# Altium integrated library Components.IntLib: 30 symbols
Pins are listed as number, name and electrical type; pins without a type are passive.

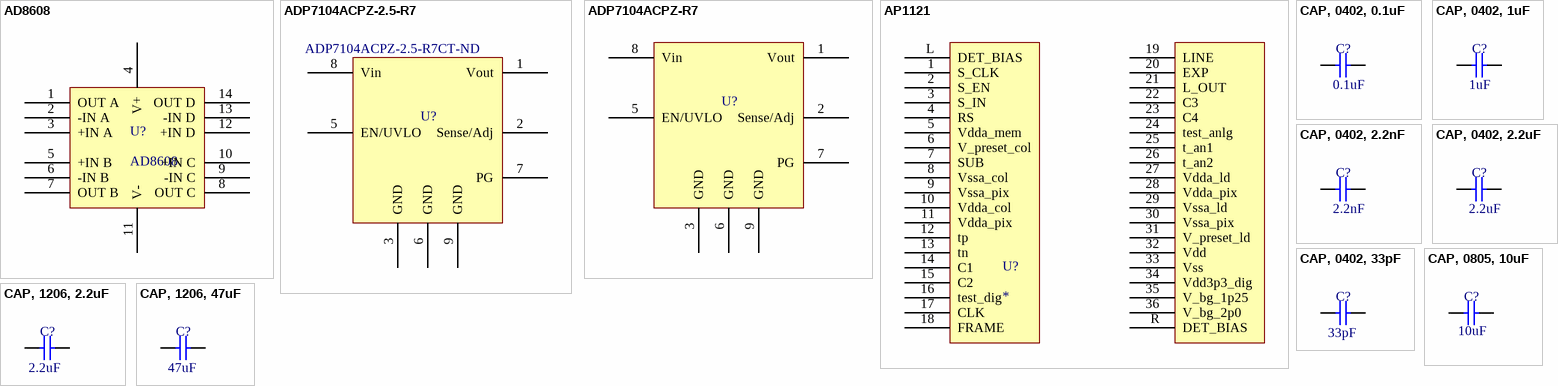
[diagram p0: symbols AD8608 to CAP, 1206, 47uF]

## AD8608
designator U?
Quad Op-Amp; Manufacturer: Analog Devices Inc; Manufacturer Part Number: AD8608ARZ-REEL; Amplifier Type: General Purpose; Number of Circuits: 4; Output Type: Rail-to-Rail; Slew Rate: 5 V/µs; Gain Bandwidth Product: 10MHz; Current - Input Bias: 0.2pA; Voltage - Input Offset: 80µV; Current - Supply: 1mA; Current - Output / Channel: 80mA; Voltage - Supply, Single/Dual (±): 2.7 V ~ 5.5 V; Description: IC OPAMP GP 10MHZ RRO 14SOIC; Packaging: Cut Tape (CT); -3db Bandwidth: -; Operating Temperature: -40°C ~ 125°C; Mounting Type: Surface Mount; Package / Case: 14-SOIC (0.154", 3.90mm Width); Supplier Device Package: 14-SOIC; ComponentLink1URL: http://www.analog.com/static/imported-files/data_sheets/AD8605_8606_8608.pdf; ComponentLink1Description: http://www.analog.com/static/imported-files/data_sheets/AD8605_8606_8608.pdf; Supplier 1: Digi-Key; Supplier Part Number 1: AD8608ARZ-REELCT-ND; RoHS: RoHS Compliant; Stock 1: 2419; Pricing 1: 1=4.22, 10=3.785, 25=3.4036, 100=3.0954, 250=2.80196, 500=2.50858, 1000=2.11248 (USD); Category: Integrated Circuits (ICs)
footprint TSOP65P640X120-14N (TSOP, 14-Leads, Body 5.1x4.5mm (max), Pitch 0.65mm, IPC Medium Density)
pins: 1 OUT A, 2 -IN A, 3 +IN A, 4 V+, 5 +IN B, 6 -IN B, 7 OUT B, 8 OUT C, 9 -IN C, 10 +IN C, 11 V-, 12 +IN D, 13 -IN D, 14 OUT D

## ADP7104ACPZ-2.5-R7
designator U?  Supplier Part Number 1: ADP7104ACPZ-2.5-R7CT-ND  (hidden comment: *)
2.5V Voltage Regulator; Supplier 1: Digi-Key
footprint QFN50P300X300X75-8N (QFN, 8-Leads, Body 3.1x3.1mm (max), Pitch 0.50mm, IPC Medium Density)
pins: 1 Vout, 2 Sense/Adj, 3 GND, 5 EN/UVLO, 6 GND, 7 PG, 8 Vin, 9 GND

## ADP7104ACPZ-R7
designator U?  (value not drawn)
Adjustable Voltage Regulator; Supplier 1: Digi-Key; Supplier Part Number 1: ADP7104ACPZ-R7CT-ND
footprint QFN50P300X300X75-8N (QFN, 8-Leads, Body 3.1x3.1mm (max), Pitch 0.50mm, IPC Medium Density)
pins: 1 Vout, 2 Sense/Adj, 3 GND, 5 EN/UVLO, 6 GND, 7 PG, 8 Vin, 9 GND

## AP1121
designator U?
footprint AP1121
pins: 1 S_CLK, 2 S_EN, 3 S_IN, 4 RS, 5 Vdda_mem, 6 V_preset_col, 7 SUB, 8 Vssa_col, 9 Vssa_pix, 10 Vdda_col, 11 Vdda_pix, 12 tp, 13 tn, 14 C1, 15 C2, 16 test_dig, 17 CLK, 18 FRAME, 19 LINE, 20 EXP, 21 L_OUT, 22 C3, 23 C4, 24 test_anlg, 25 t_an1, 26 t_an2, 27 Vdda_ld, 28 Vdda_pix, 29 Vssa_ld, 30 Vssa_pix, 31 V_preset_ld, 32 Vdd, 33 Vss, 34 Vdd3p3_dig, 35 V_bg_1p25, 36 V_bg_2p0, L DET_BIAS, R DET_BIAS

## CAP, 0402, 0.1uF
designator C?  value 0.1uF  (hidden comment: *)
Supplier 1: Digi-Key; Supplier Part Number 1: 587-1456-2-ND
footprint CAPC01005(0402)22_N (Chip Capacitor, Body 0.4x0.2mm, Height 0.22mm, IPC Medium Density)
pins: 1, 2

## CAP, 0402, 1uF
designator C?  value 1uF  (hidden comment: *)
Supplier 1: Digi-Key; Supplier Part Number 1: 587-3245-1-ND
footprint CAPC01005(0402)22_N (Chip Capacitor, Body 0.4x0.2mm, Height 0.22mm, IPC Medium Density)
pins: 1, 2

## CAP, 0402, 2.2nF
designator C?  value 2.2nF  (hidden comment: *)
Manufacturer: Taiyo Yuden; Manufacturer Part Number: UMK105B7222KV-F; Capacitance: 2200pF; Voltage - Rated: 50V; Tolerance: ±10%; Temperature Coefficient: X7R; Description: CAP CER 2200PF 50V 10% X7R 0402; Packaging: Cut Tape (CT); Mounting Type: Surface Mount, MLCC; Operating Temperature: -55°C ~ 125°C; Applications: General Purpose; Ratings: -; Package / Case: 0402 (1005 Metric); Size / Dimension: 0.039" L x 0.020" W (1.00mm x 0.50mm); Height - Seated (Max): -; Thickness (Max): 0.022" (0.55mm); Lead Spacing: -; Features: -; Lead Style: -; ComponentLink1URL: http://www.yuden.co.jp/or/product/category/capacitor/UMK105B7222KV-F.pdf; ComponentLink1Description: http://www.yuden.co.jp/or/product/category/capacitor/UMK105B7222KV-F.pdf; Supplier 1: Digi-Key; Supplier Part Number 1: 587-1221-1-ND; RoHS: RoHS Compliant; Category: Capacitors; Stock 1: 180048; Pricing 1: 1=0.1, 10=0.014, 50=0.0078, 100=0.0066, 250=0.0054, 500=0.00462, 1000=0.0036, 5000=0.003 (USD)
footprint CAPC01005(0402)22_N (Chip Capacitor, Body 0.4x0.2mm, Height 0.22mm, IPC Medium Density)
pins: 1, 2

## CAP, 0402, 2.2uF
designator C?  value 2.2uF  (hidden comment: *)
Manufacturer: Taiyo Yuden; Manufacturer Part Number: EMK105ABJ225MV-F; Capacitance: 2.2µF; Voltage - Rated: 16V; Tolerance: ±20%; Temperature Coefficient: X5R; Description: CAP CER 2.2UF 16V 20% X5R 0402; Supplier 1: Digi-Key; Supplier Part Number 1: 587-3245-1-ND; Packaging: Cut Tape (CT); Mounting Type: Surface Mount, MLCC; Operating Temperature: -55°C ~ 85°C; Applications: General Purpose; Ratings: -; Package / Case: 0402 (1005 Metric); Size / Dimension: 0.039" L x 0.020" W (1.00mm x 0.50mm); Height - Seated (Max): -; Thickness (Max): 0.022" (0.55mm); Lead Spacing: -; Features: -; Lead Style: -; ComponentLink1URL: http://www.yuden.co.jp/productdata/catalog/en/mlcc101_e.pdf; ComponentLink1Description: http://www.yuden.co.jp/productdata/catalog/en/mlcc101_e.pdf; Supplier 2: Digi-Key; Supplier Part Number 2: 587-3302-1-ND; RoHS: RoHS Compliant; Category: Capacitors; Stock 2: 46990; Pricing 2: 1=0.49, 10=0.371, 50=0.2162, 100=0.1729, 250=0.12352, 500=0.08398, 1000=0.06793, 5000=0.05311 (USD)
footprint CAPC01005(0402)22_N (Chip Capacitor, Body 0.4x0.2mm, Height 0.22mm, IPC Medium Density)
pins: 1, 2

## CAP, 0402, 33pF
designator C?  value 33pF
Supplier 1: Digi-Key; Supplier Part Number 1: 587-1205-1-ND
footprint CAPC01005(0402)22_N (Chip Capacitor, Body 0.4x0.2mm, Height 0.22mm, IPC Medium Density)
pins: 1, 2

## CAP, 0805, 10uF
designator C?  value 10uF  (hidden comment: *)
Supplier 1: Digi-Key; Supplier Part Number 1: 587-2985-1-ND
footprint CAPC0805(2012)130_N (Chip Capacitor, Body 2.0x1.2mm, Height 1.3mm, IPC Medium Density)
pins: 1, 2

## CAP, 1206, 2.2uF
designator C?, comment value 2.2uF  (hidden comment: 587-1329-2-ND)
Supplier 1: Digi-Key; Supplier Part Number 1: 587-1329-1-ND
footprint CAPC1206(3216)170_N (Chip Capacitor, Body 3.2x1.6mm, Height 1.7mm, IPC Medium Density)
pins: 1, 2

## CAP, 1206, 47uF
designator C?  value 47uF
Supplier 1: Digi-Key; Supplier Part Number 1: 445-8047-1-ND
footprint CAPC1206(3216)170_N (Chip Capacitor, Body 3.2x1.6mm, Height 1.7mm, IPC Medium Density)
pins: 1, 2

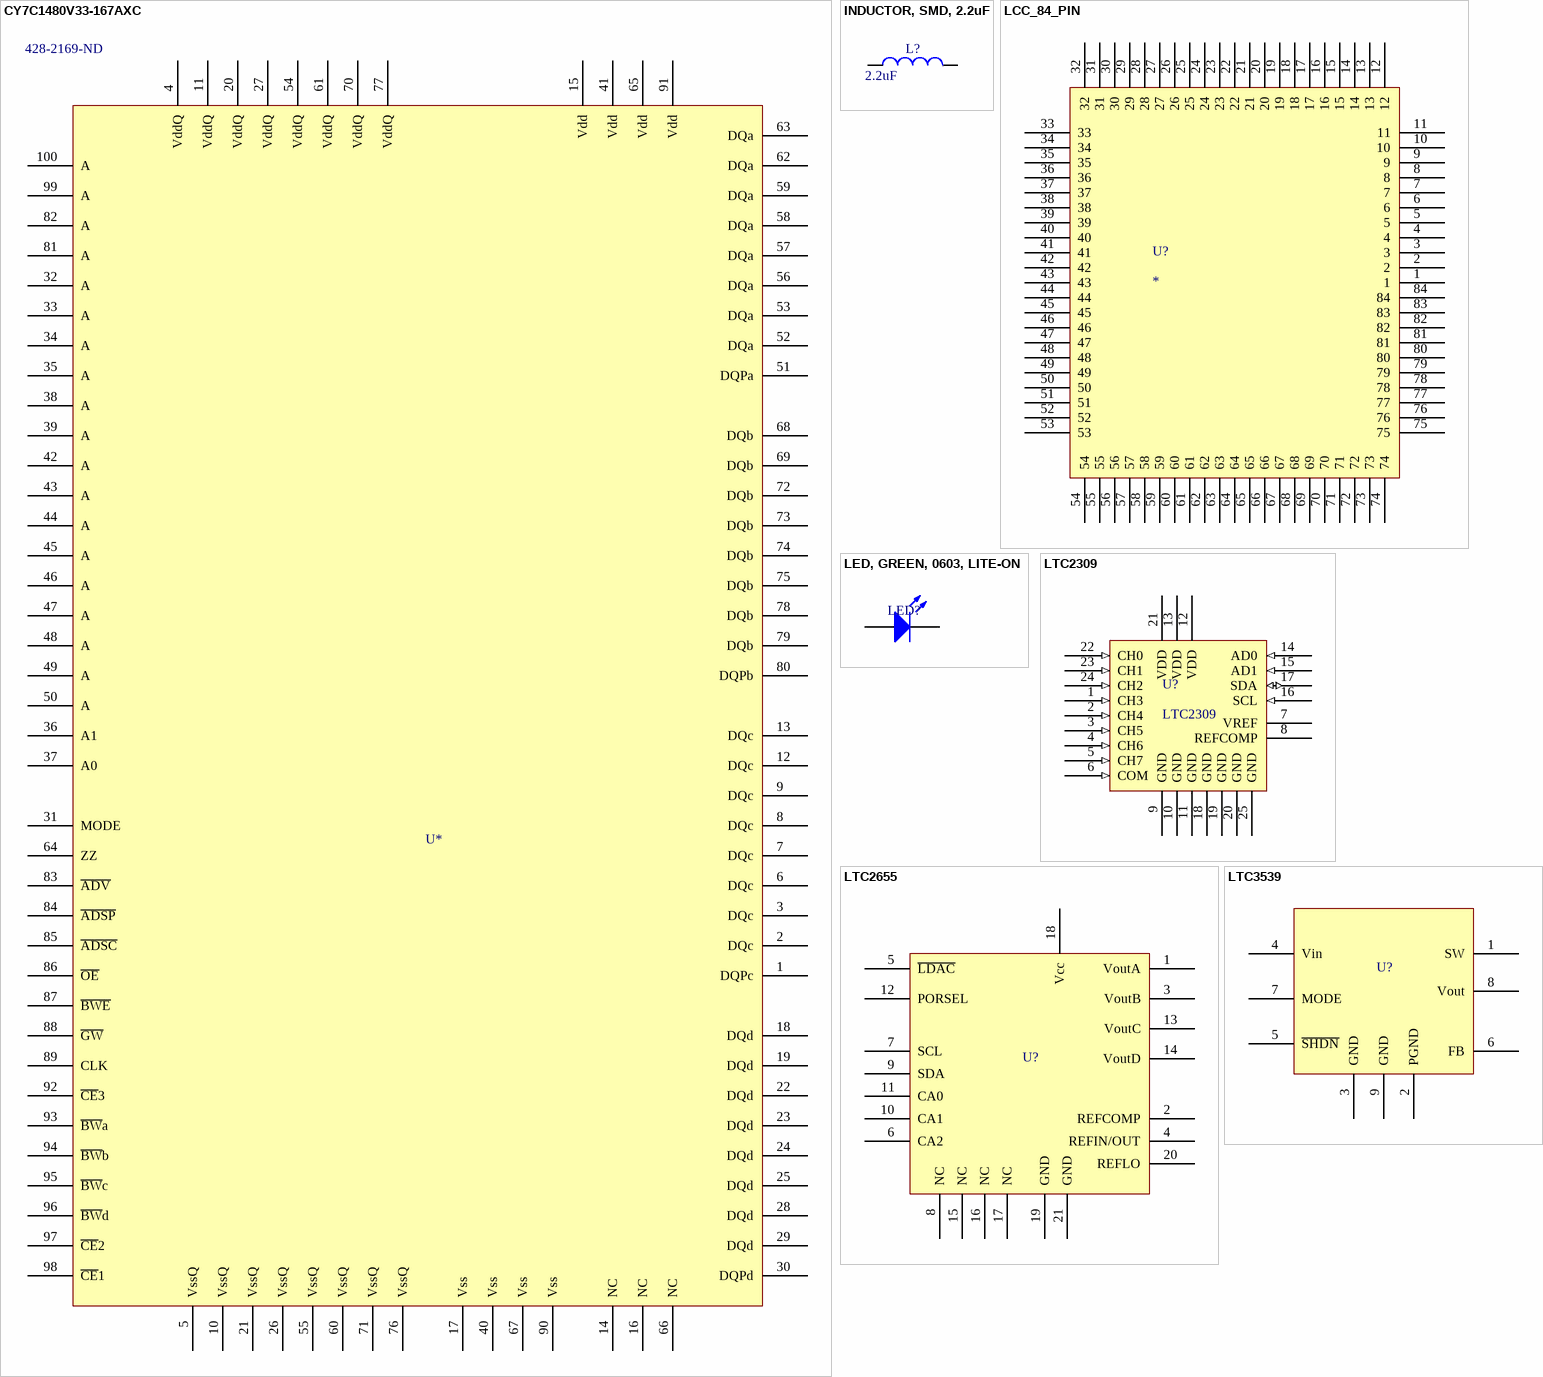
[diagram p1: symbols CY7C1480V33-167AXC to LTC3539]

## CY7C1480V33-167AXC
designator U*  Supplier Part Number 1: 428-2169-ND
Supplier 1: Digi-Key
footprint TQFP65P1600X2200X140-100N (TQFP, 100-Leads, Body 22.2x16.2mm (max), Pitch 0.65mm, IPC Medium Density)
pins: 1 DQPc, 2 DQc, 3 DQc, 4 VddQ, 5 VssQ, 6 DQc, 7 DQc, 8 DQc, 9 DQc, 10 VssQ, 11 VddQ, 12 DQc, 13 DQc, 14 NC, 15 Vdd, 16 NC, 17 Vss, 18 DQd, 19 DQd, 20 VddQ, 21 VssQ, 22 DQd, 23 DQd, 24 DQd, 25 DQd, 26 VssQ, 27 VddQ, 28 DQd, 29 DQd, 30 DQPd, 31 MODE, 32 A, 33 A, 34 A, 35 A, 36 A1, 37 A0, 38 A, 39 A, 40 Vss, 41 Vdd, 42 A, 43 A, 44 A, 45 A, 46 A, 47 A, 48 A, 49 A, 50 A, 51 DQPa, 52 DQa, 53 DQa, 54 VddQ, 55 VssQ, 56 DQa, 57 DQa, 58 DQa, 59 DQa, 60 VssQ, 61 VddQ, 62 DQa, 63 DQa, 64 ZZ, 65 Vdd, 66 NC, 67 Vss, 68 DQb, 69 DQb, 70 VddQ, 71 VssQ, 72 DQb, 73 DQb, 74 DQb, 75 DQb, 76 VssQ, 77 VddQ, 78 DQb, 79 DQb, 80 DQPb, 81 A, 82 A, 83 ~{ADV}, 84 ~{ADSP}, 85 ~{ADSC}, 86 ~{OE}, 87 ~{BWE}, 88 ~{GW}, 89 CLK, 90 Vss, 91 Vdd, 92 ~{CE}3, 93 ~{BW}a, 94 ~{BW}b, 95 ~{BW}c, 96 ~{BW}d, 97 ~{CE}2, 98 ~{CE}1, 99 A, 100 A

## INDUCTOR, SMD, 2.2uF
designator L?  value 2.2uF
Supplier 1: Digi-Key; Supplier Part Number 1: 445-4242-1-ND
footprint INDUCTOR, SMD, TDK (TDK VLF SERIES, VLF5014S)
pins: 1, 2

## LCC_84_PIN
designator U?
footprint LCC_84_PIN
pins: 1, 2, 3, 4, 5, 6, 7, 8, 9, 10, 11, 12, 13, 14, 15, 16, 17, 18, 19, 20, 21, 22, 23, 24, 25, 26, 27, 28, 29, 30, 31, 32, 33, 34, 35, 36, 37, 38, 39, 40, 41, 42, 43, 44, 45, 46, 47, 48, 49, 50, 51, 52, 53, 54, 55, 56, 57, 58, 59, 60, 61, 62, 63, 64, 65, 66, 67, 68, 69, 70, 71, 72, 73, 74, 75, 76, 77, 78, 79, 80, 81, 82, 83, 84

## LED, GREEN, 0603, LITE-ON
designator LED?  (value not drawn)
Supplier 1: Digi-Key; Supplier Part Number 1: 160-1446-1-ND
footprint 0603, LED (Chip LED, 2-Leads, Body 1.6x0.8mm, IPC Medium Density)
pins: 1 C, 2 A

## LTC2309
designator U?
8-Channel, 12-Bit SAR ADC with I2C Interface; Manufacturer: Linear Technology; Manufacturer Part Number: LTC2309CUF#PBF; Number of Bits: 12; Sampling Rate (Per Second): 14k; Data Interface: I²C, Serial; Number of Converters: 1; Voltage Supply Source: Single Supply; Number of Inputs and Type: 8 Single-Ended, Unipolar; 8 Single-Ended, Bipolar; 4 Differential, Unipolar; 4 Differential, Bipolar; Description: IC ADC 12BIT SAR 24-QFN; Packaging: Tube; Operating Temperature: 0°C ~ 70°C; Mounting Type: Surface Mount; Package / Case: 24-WFQFN Exposed Pad; Supplier Device Package: 24-QFN Exposed Pad (4x4); ComponentLink1URL: http://www.linear.com/docs/25786; ComponentLink1Description: http://www.linear.com/docs/25786; Supplier 1: Digi-Key; Supplier Part Number 1: LTC2309CUF#PBF-ND; RoHS: RoHS Compliant; Category: Integrated Circuits (ICs); Stock 1: 532; Pricing 1: 1=6.31, 25=5.27, 100=4.34 (USD)
footprint QFN50P400X400X80-24N (QFN, 24-Leads, Body 4.1x4.1mm (max), Pitch 0.50mm, IPC Medium Density)
pins: 1 CH3 (in), 2 CH4 (in), 3 CH5 (in), 4 CH6 (in), 5 CH7 (in), 6 COM (in), 7 VREF, 8 REFCOMP, 9 GND (power), 10 GND (power), 11 GND (power), 12 VDD (power), 13 VDD (power), 14 AD0 (in), 15 AD1 (in), 16 SCL (in), 17 SDA (io), 18 GND (power), 19 GND (power), 20 GND (power), 21 VDD (power), 22 CH0 (in), 23 CH1 (in), 24 CH2 (in), 25 GND (power)

## LTC2655
designator U?  (value not drawn)
Quad I2C 16-/12-Bit Rail-to-Rail DACs with 10ppm/°C Max Reference; Supplier 1: Digi-Key; Supplier Part Number 1: LTC2655BIUF-L16#PBF-ND
footprint QFN50P400X400X70-20N (QFN, 20-Leads, Body 4.1x4.1mm (max), Pitch 0.50mm, IPC Medium Density)
pins: 1 VoutA, 2 REFCOMP, 3 VoutB, 4 REFIN/OUT, 5 ~{LDAC}, 6 CA2, 7 SCL, 8 NC, 9 SDA, 10 CA1, 11 CA0, 12 PORSEL, 13 VoutC, 14 VoutD, 15 NC, 16 NC, 17 NC, 18 Vcc, 19 GND, 20 REFLO, 21 GND

## LTC3539
designator U?  (value not drawn)
2A, 1MHz/2MHz Synchronous Step-Up DC/DC Converters; Supplier 1: Digi-Key; Supplier Part Number 1: LTC3539EDCB#TRMPBFTR-ND
footprint QFN45P300X200X80-8N (QFN, 8-Leads, Body 2.1x3.1mm (max), Pitch 0.45mm, IPC Medium Density)
pins: 1 SW, 2 PGND, 3 GND, 4 Vin, 5 ~{SHDN}, 6 FB, 7 MODE, 8 Vout, 9 GND

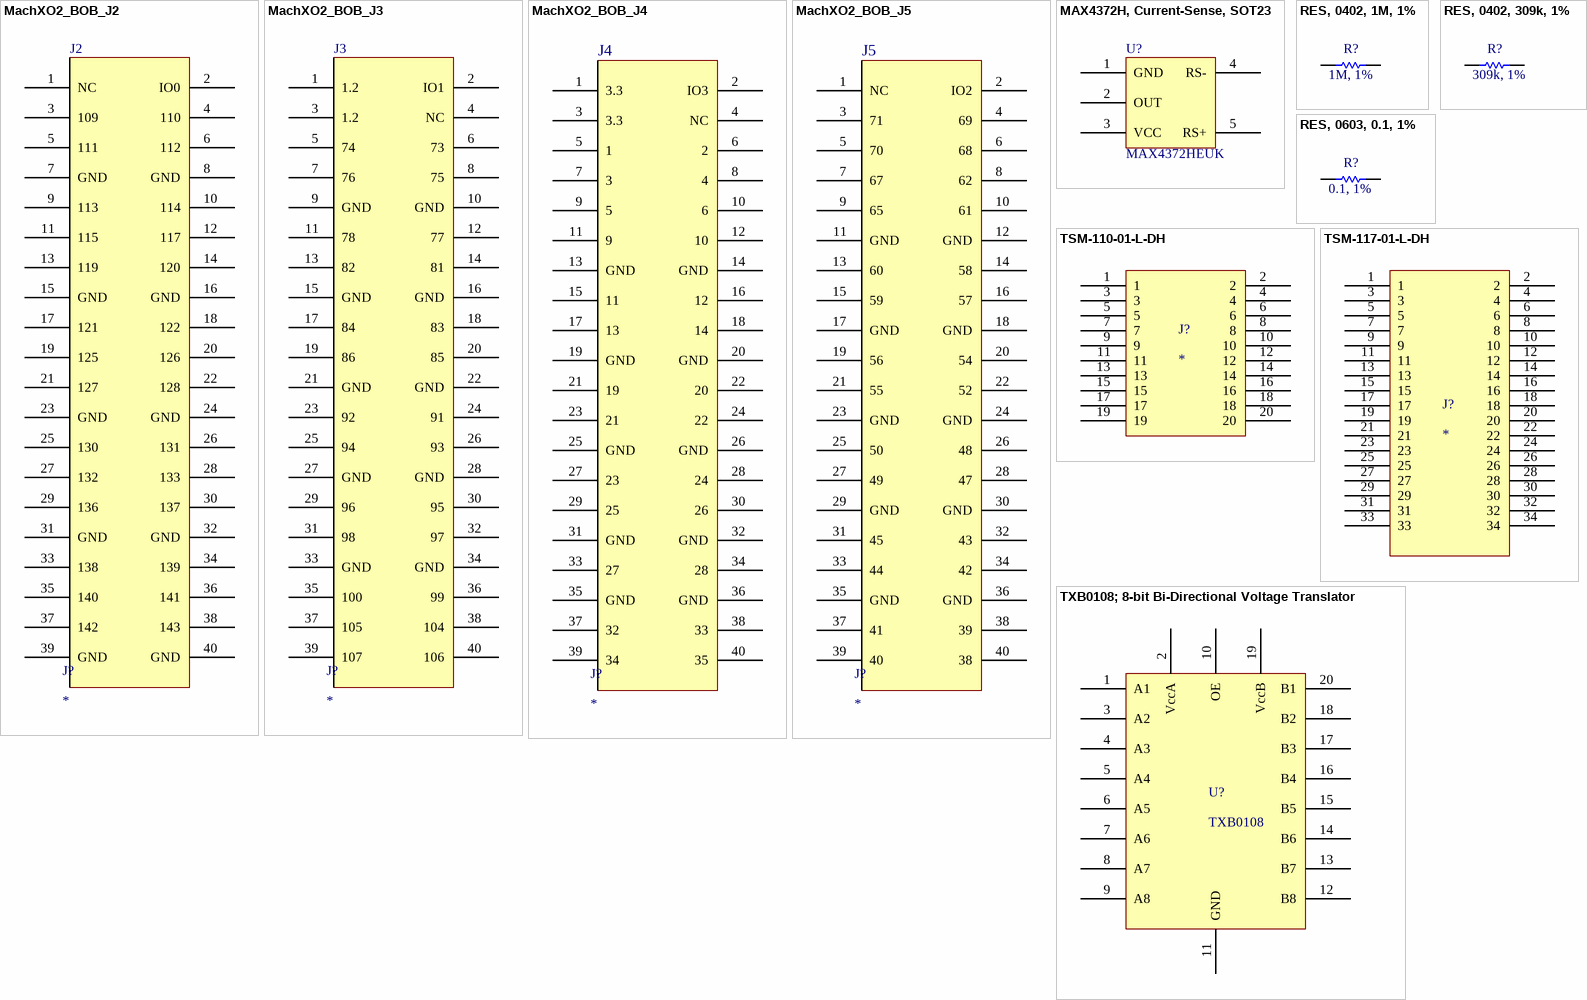
[diagram p2: symbols MachXO2_BOB_J2 to TXB0108; 8-bit Bi-Directional Voltage Translator]

## MachXO2_BOB_J2
designator J?
Manufacturer: 3M; Manufacturer Part Number: 966240-2000-AR-PR; Connector Type: Receptacle, Pass Through; Number of Positions: 40; Number of Positions Loaded: All; Pitch: 0.100" (2.54mm); Description: CONN SOCKET LO-PRO 40PS GOLD SMD; Packaging: Cut Tape (CT); Contact Type: Female Socket; Number of Rows: 2; Row Spacing: 0.100" (2.54mm); Mounting Type: Surface Mount; Termination: Solder; Fastening Type: -; Features: -; Contact Finish: Gold; Contact Finish Thickness: Flash; Color: Black; ComponentLink1URL: http://multimedia.3m.com/mws/mediawebserver?66666UuZjcFSLXTtNxTElXftEVuQEcuZgVs6EVs6E666666--; ComponentLink1Description: http://multimedia.3m.com/mws/mediawebserver?66666UuZjcFSLXTtNxTElXftEVuQEcuZgVs6EVs6E666666--; Supplier 1: Digi-Key; Supplier Part Number 1: 3M9579CT-ND; RoHS: RoHS Compliant; Category: Connectors, Interconnects; Stock 1: 767; Pricing 1: 1=6.97, 10=6.679, 25=6.0984, 50=5.808, 100=5.5176, 250=4.9368 (USD); Supplier 2: Digi-Key; Supplier Part Number 2: TSM-120-01-L-DV-P-ND
footprint RECEPTACLE_25.4MM_20x2_P1URC_SMT - duplicate (3M 966 Series 20x2 through board SMIT receptacle)
footprint HEADER_25.4MM_20x2_SMT_TOP (Samtec TSM 0.1" 2x20 Header)
pins: 1 NC, 2 IO0, 3 109, 4 110, 5 111, 6 112, 7 GND, 8 GND, 9 113, 10 114, 11 115, 12 117, 13 119, 14 120, 15 GND, 16 GND, 17 121, 18 122, 19 125, 20 126, 21 127, 22 128, 23 GND, 24 GND, 25 130, 26 131, 27 132, 28 133, 29 136, 30 137, 31 GND, 32 GND, 33 138, 34 139, 35 140, 36 141, 37 142, 38 143, 39 GND, 40 GND
text: J2

## MachXO2_BOB_J3
designator J?
Manufacturer: 3M; Manufacturer Part Number: 966240-2000-AR-PR; Connector Type: Receptacle, Pass Through; Number of Positions: 40; Number of Positions Loaded: All; Pitch: 0.100" (2.54mm); Description: CONN SOCKET LO-PRO 40PS GOLD SMD; Packaging: Cut Tape (CT); Contact Type: Female Socket; Number of Rows: 2; Row Spacing: 0.100" (2.54mm); Mounting Type: Surface Mount; Termination: Solder; Fastening Type: -; Features: -; Contact Finish: Gold; Contact Finish Thickness: Flash; Color: Black; ComponentLink1URL: http://multimedia.3m.com/mws/mediawebserver?66666UuZjcFSLXTtNxTElXftEVuQEcuZgVs6EVs6E666666--; ComponentLink1Description: http://multimedia.3m.com/mws/mediawebserver?66666UuZjcFSLXTtNxTElXftEVuQEcuZgVs6EVs6E666666--; Supplier 1: Digi-Key; Supplier Part Number 1: 3M9579CT-ND; RoHS: RoHS Compliant; Category: Connectors, Interconnects; Stock 1: 767; Pricing 1: 1=6.97, 10=6.679, 25=6.0984, 50=5.808, 100=5.5176, 250=4.9368 (USD)
footprint RECEPTACLE_25.4MM_20x2_P1URC_SMT - duplicate (3M 966 Series 20x2 through board SMIT receptacle)
footprint HEADER_25.4MM_20x2_SMT_TOP (Samtec TSM 0.1" 2x20 Header)
pins: 1 1.2, 2 IO1, 3 1.2, 4 NC, 5 74, 6 73, 7 76, 8 75, 9 GND, 10 GND, 11 78, 12 77, 13 82, 14 81, 15 GND, 16 GND, 17 84, 18 83, 19 86, 20 85, 21 GND, 22 GND, 23 92, 24 91, 25 94, 26 93, 27 GND, 28 GND, 29 96, 30 95, 31 98, 32 97, 33 GND, 34 GND, 35 100, 36 99, 37 105, 38 104, 39 107, 40 106
text: J3

## MachXO2_BOB_J4
designator J?
Manufacturer: 3M; Manufacturer Part Number: 966240-2000-AR-PR; Connector Type: Receptacle, Pass Through; Number of Positions: 40; Number of Positions Loaded: All; Pitch: 0.100" (2.54mm); Description: CONN SOCKET LO-PRO 40PS GOLD SMD; Packaging: Cut Tape (CT); Contact Type: Female Socket; Number of Rows: 2; Row Spacing: 0.100" (2.54mm); Mounting Type: Surface Mount; Termination: Solder; Fastening Type: -; Features: -; Contact Finish: Gold; Contact Finish Thickness: Flash; Color: Black; ComponentLink1URL: http://multimedia.3m.com/mws/mediawebserver?66666UuZjcFSLXTtNxTElXftEVuQEcuZgVs6EVs6E666666--; ComponentLink1Description: http://multimedia.3m.com/mws/mediawebserver?66666UuZjcFSLXTtNxTElXftEVuQEcuZgVs6EVs6E666666--; Supplier 1: Digi-Key; Supplier Part Number 1: 3M9579CT-ND; RoHS: RoHS Compliant; Category: Connectors, Interconnects; Stock 1: 767; Pricing 1: 1=6.97, 10=6.679, 25=6.0984, 50=5.808, 100=5.5176, 250=4.9368 (USD)
footprint RECEPTACLE_25.4MM_20x2_P1URC_SMT - duplicate (3M 966 Series 20x2 through board SMIT receptacle)
footprint HEADER_25.4MM_20x2_SMT_TOP (Samtec TSM 0.1" 2x20 Header)
pins: 1 3.3, 2 IO3, 3 3.3, 4 NC, 5 1, 6 2, 7 3, 8 4, 9 5, 10 6, 11 9, 12 10, 13 GND, 14 GND, 15 11, 16 12, 17 13, 18 14, 19 GND, 20 GND, 21 19, 22 20, 23 21, 24 22, 25 GND, 26 GND, 27 23, 28 24, 29 25, 30 26, 31 GND, 32 GND, 33 27, 34 28, 35 GND, 36 GND, 37 32, 38 33, 39 34, 40 35
text: J4

## MachXO2_BOB_J5
designator J?
Manufacturer: 3M; Manufacturer Part Number: 966240-2000-AR-PR; Connector Type: Receptacle, Pass Through; Number of Positions: 40; Number of Positions Loaded: All; Pitch: 0.100" (2.54mm); Description: CONN SOCKET LO-PRO 40PS GOLD SMD; Packaging: Cut Tape (CT); Contact Type: Female Socket; Number of Rows: 2; Row Spacing: 0.100" (2.54mm); Mounting Type: Surface Mount; Termination: Solder; Fastening Type: -; Features: -; Contact Finish: Gold; Contact Finish Thickness: Flash; Color: Black; ComponentLink1URL: http://multimedia.3m.com/mws/mediawebserver?66666UuZjcFSLXTtNxTElXftEVuQEcuZgVs6EVs6E666666--; ComponentLink1Description: http://multimedia.3m.com/mws/mediawebserver?66666UuZjcFSLXTtNxTElXftEVuQEcuZgVs6EVs6E666666--; Supplier 1: Digi-Key; Supplier Part Number 1: 3M9579CT-ND; RoHS: RoHS Compliant; Category: Connectors, Interconnects; Stock 1: 767; Pricing 1: 1=6.97, 10=6.679, 25=6.0984, 50=5.808, 100=5.5176, 250=4.9368 (USD)
footprint RECEPTACLE_25.4MM_20x2_P1URC_SMT - duplicate (3M 966 Series 20x2 through board SMIT receptacle)
footprint HEADER_25.4MM_20x2_SMT_TOP (Samtec TSM 0.1" 2x20 Header)
pins: 1 NC, 2 IO2, 3 71, 4 69, 5 70, 6 68, 7 67, 8 62, 9 65, 10 61, 11 GND, 12 GND, 13 60, 14 58, 15 59, 16 57, 17 GND, 18 GND, 19 56, 20 54, 21 55, 22 52, 23 GND, 24 GND, 25 50, 26 48, 27 49, 28 47, 29 GND, 30 GND, 31 45, 32 43, 33 44, 34 42, 35 GND, 36 GND, 37 41, 38 39, 39 40, 40 38
text: J5

## MAX4372H, Current-Sense, SOT23
designator U?, comment MAX4372HEUK
Manufacturer: Maxim; Manufacturer PN: MAX4372HEUK+T; Supplier: Digikey; Supplier PN: MAX4372HEUK_TCT-ND; Supplier link: http://www.digikey.com/product-detail/en/MAX4372HEUK%2BT/MAX4372HEUK%2BTCT-ND/2234345; Unit price: 1.97
footprint SOT23-5, MAX4372H (SOT23, 5-Leads, Body 3.0x3.0mm (max), Pitch 0.95mm, IPC Medium Density)
pins: 1 GND, 2 OUT, 3 VCC, 4 RS-, 5 RS+

## RES, 0402, 1M, 1%
designator R?  value 1M, 1%  (hidden comment: *)
Supplier 1: Digi-Key; Supplier Part Number 1: P1.00MLCT-ND
footprint RESC0402(1005)_N (Chip Resistor, Body 1.0x0.5mm, IPC Medium Density)
pins: 1, 2

## RES, 0402, 309k, 1%
designator R?  value 309k, 1%  (hidden comment: *)
Supplier 1: Digi-Key; Supplier Part Number 1: RHM309KBHCT-ND
footprint RESC0402(1005)_N (Chip Resistor, Body 1.0x0.5mm, IPC Medium Density)
pins: 1, 2

## RES, 0603, 0.1, 1%
designator R?  value 0.1, 1%  (hidden comment: *)
Manufacturer: Panasonic Electronic Components; Manufacturer Part Number: ERJ-3RSFR10V; Resistance (Ohms): 0.1; Tolerance: ±1%; Power (Watts): 0.1W, 1/10W; Temperature Coefficient: ±300ppm/°C; Description: RES 0.1 OHM 1/10W 1% 0603 SMD; Packaging: Cut Tape (CT); Composition: Thick Film; Features: -; Package / Case: 0603 (1608 Metric); Supplier Device Package: 0603; Size / Dimension: 0.063" L x 0.031" W (1.60mm x 0.80mm); Height: 0.022" (0.55mm); Number of Terminations: 2; ComponentLink1URL: http://industrial.panasonic.com/www-cgi/jvcr13pz.cgi?E+PZ+3+AOA0003+ERJ3RSFR10V+7+WW; ComponentLink1Description: http://industrial.panasonic.com/www-cgi/jvcr13pz.cgi?E+PZ+3+AOA0003+ERJ3RSFR10V+7+WW; Supplier 1: Digi-Key; Supplier Part Number 1: P.10AJCT-ND; RoHS: RoHS Compliant; Category: Resistors; Stock 1: 81086; Pricing 1: 1=0.48, 50=0.1898, 100=0.1465, 250=0.11392, 500=0.0803, 1000=0.05859 (USD)
footprint RES, 0603 (Chip Resistor, 2-Leads, Body 1.6x0.8mm, IPC Medium Density)
pins: 1, 2

## TSM-110-01-L-DH
designator J?
Manufacturer: Samtec Inc; Manufacturer Part Number: TSM-110-01-L-DH; Connector Type: Header, Unshrouded; Number of Positions: 20; Number of Positions Loaded: All; Pitch: 0.100" (2.54mm); Description: CONN HEADER 20POS .100" DBL SMD; Packaging: Tube; Contact Type: Male Pin; Number of Rows: 2; Row Spacing: 0.100" (2.54mm); Contact Mating Length: 0.230" (5.84mm); Mounting Type: Surface Mount, Right Angle; Termination: Solder; Fastening Type: -; Features: -; Contact Finish: Gold; Contact Finish Thickness: 10µin (0.25µm); Color: Black; ComponentLink1URL: http://www.samtec.com/documents/webfiles/cpdf/TSM-1XX-XX-XXX-XX-XX-XXX-XX-MKT1.pdf; ComponentLink1Description: http://www.samtec.com/documents/webfiles/cpdf/TSM-1XX-XX-XXX-XX-XX-XXX-XX-MKT1.pdf; Supplier 1: Digi-Key; Supplier Part Number 1: TSM-110-01-L-DH-ND; RoHS: RoHS Compliant; Category: Connectors, Interconnects; Stock 1: 0; Pricing 1: 1=2.63 (USD)
footprint HEADER_25.4MM_10x2_SMT_RA_TOP (Samtec TSM 0.1" 1x10 Header)
pins: 1, 2, 3, 4, 5, 6, 7, 8, 9, 10, 11, 12, 13, 14, 15, 16, 17, 18, 19, 20

## TSM-117-01-L-DH
designator J?
Manufacturer: Samtec Inc; Manufacturer Part Number: TSM-117-01-L-DH; Connector Type: Header, Unshrouded; Number of Positions: 34; Number of Positions Loaded: All; Pitch: 0.100" (2.54mm); Description: CONN HEADER 34POS .100" DBL SMD; Packaging: Tube; Contact Type: Male Pin; Number of Rows: 2; Row Spacing: 0.100" (2.54mm); Contact Mating Length: 0.230" (5.84mm); Mounting Type: Surface Mount, Right Angle; Termination: Solder; Fastening Type: -; Features: -; Contact Finish: Gold; Contact Finish Thickness: 10µin (0.25µm); Color: Black; ComponentLink1URL: http://www.samtec.com/documents/webfiles/cpdf/TSM-1XX-XX-XXX-XX-XX-XXX-XX-MKT1.pdf; ComponentLink1Description: http://www.samtec.com/documents/webfiles/cpdf/TSM-1XX-XX-XXX-XX-XX-XXX-XX-MKT1.pdf; Supplier 1: Digi-Key; Supplier Part Number 1: TSM-117-01-L-DH-ND; RoHS: RoHS Compliant; Category: Connectors, Interconnects; Stock 1: 0; Pricing 1: 1=4.47 (USD)
footprint HEADER_25.4MM_17x2_SMT_RA_TOP (Samtec TSM 0.1" 1x17 Header)
pins: 1, 2, 3, 4, 5, 6, 7, 8, 9, 10, 11, 12, 13, 14, 15, 16, 17, 18, 19, 20, 21, 22, 23, 24, 25, 26, 27, 28, 29, 30, 31, 32, 33, 34

## TXB0108; 8-bit Bi-Directional Voltage Translator
designator U?, comment TXB0108
Supplier 1: Digi-Key; Supplier Part Number 1: 296-21527-2-ND
footprint TSOP65P640X120-20N (TSOP, 20-Leads, Body 6.6x4.5mm (max), Pitch 0.65mm, IPC Medium Density)
pins: 1 A1, 2 VccA, 3 A2, 4 A3, 5 A4, 6 A5, 7 A6, 8 A7, 9 A8, 10 OE, 11 GND, 12 B8, 13 B7, 14 B6, 15 B5, 16 B4, 17 B3, 18 B2, 19 VccB, 20 B1